# EAGLE library part USB2517-JZX (library openag-hubs)
IC USB 2.0 7PORT HUB CTLR 64QFN Description: USB Hub Controller USB 2.0 USB Interface 64-QFN (9x9) Technical Specifications: Protocol: USB Function: Hub Controller Interface: USB Standards: USB 2.0 Voltage - Supply: 3 V ~ 3.6 V Current - Supply: 130mA Operating Temperature: 0°C ~ 70°C Package / Case: 64-VFQFN Exposed Pad Supplier Device Package: 64-QFN (9x9) Base Part Number: USB2517 Datasheet(s): USB2517(I) Datasheet <http://ww1.microchip.com/downloads/en/DeviceDoc/00001598B.pdf> USB251x Family Brochure <http://www.microchip.com/mymicrochip/filehandler.aspx?ddocname=en562207> USB2517 Data Brief <http://www.microchip.com/mymicrochip/filehandler.aspx?ddocname=en562021> Vendor(s): Digikey: USB2517-JZX-CT-ND <https://www.digikey.com/product-detail/en/microchip-technology/USB2517-JZX-TR/USB2517-JZX-CT-ND/5043020>
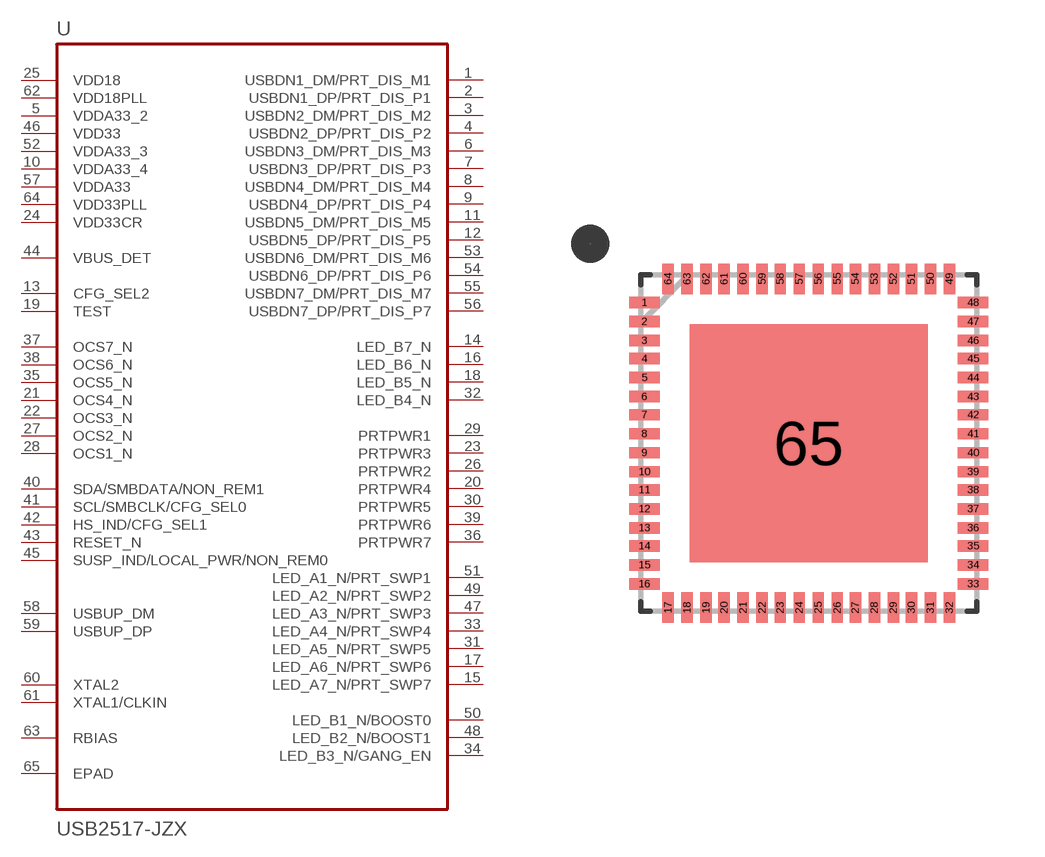
[diagram p0: symbol with the pads of QFN50P900X900X100-65N; footprint QFN50P900X900X100-65N]

Designator prefix U

## USB2517-JZX (MANUFACTURER: Microchip Technology; MPN: USB2517-JZX; VALUE: USB2517; VENDOR: Digikey; VLINK: https://www.digikey.com/product-detail/en/microchip-technology/USB2517-JZX-TR/USB2517-JZX-CT-ND/5043020; VPN: USB2517-JZX-CT-ND)  [QFN50P900X900X100-65N]
1  USBDN1_DM/PRT_DIS_M1
2  USBDN1_DP/PRT_DIS_P1
3  USBDN2_DM/PRT_DIS_M2
4  USBDN2_DP/PRT_DIS_P2
5  VDDA33_2  pwr
6  USBDN3_DM/PRT_DIS_M3
7  USBDN3_DP/PRT_DIS_P3
8  USBDN4_DM/PRT_DIS_M4
9  USBDN4_DP/PRT_DIS_P4
10  VDDA33_4  pwr
11  USBDN5_DM/PRT_DIS_M5
12  USBDN5_DP/PRT_DIS_P5
13  CFG_SEL2  in
14  LED_B7_N
15  LED_A7_N/PRT_SWP7
16  LED_B6_N
17  LED_A6_N/PRT_SWP6
18  LED_B5_N
19  TEST  in
20  PRTPWR4  out
21  OCS4_N  in
22  OCS3_N  in
23  PRTPWR3  out
24  VDD33CR  pwr
25  VDD18  pwr
26  PRTPWR2  out
27  OCS2_N  in
28  OCS1_N  in
29  PRTPWR1  out
30  PRTPWR5  out
31  LED_A5_N/PRT_SWP5
32  LED_B4_N
33  LED_A4_N/PRT_SWP4
34  LED_B3_N/GANG_EN
35  OCS5_N  in
36  PRTPWR7  out
37  OCS7_N  in
38  OCS6_N  in
39  PRTPWR6  out
40  SDA/SMBDATA/NON_REM1
41  SCL/SMBCLK/CFG_SEL0
42  HS_IND/CFG_SEL1
43  RESET_N  in
44  VBUS_DET  pwr
45  SUSP_IND/LOCAL_PWR/NON_REM0
46  VDD33  pwr
47  LED_A3_N/PRT_SWP3
48  LED_B2_N/BOOST1
49  LED_A2_N/PRT_SWP2
50  LED_B1_N/BOOST0
51  LED_A1_N/PRT_SWP1
52  VDDA33_3  pwr
53  USBDN6_DM/PRT_DIS_M6
54  USBDN6_DP/PRT_DIS_P6
55  USBDN7_DM/PRT_DIS_M7
56  USBDN7_DP/PRT_DIS_P7
57  VDDA33  pwr
58  USBUP_DM
59  USBUP_DP
60  XTAL2  out
61  XTAL1/CLKIN  in
62  VDD18PLL  pwr
63  RBIAS  in
64  VDD33PLL  pwr
65  EPAD  pas

## Footprint QFN50P900X900X100-65N (pad centres in mm)
smd 0.813 x 0.305: 1 -4.394,3.759; 2 -4.394,3.251; 3 -4.394,2.743; 4 -4.394,2.261; 5 -4.394,1.753; 6 -4.394,1.245; 7 -4.394,0.762; 8 -4.394,0.254; 9 -4.394,-0.254; 10 -4.394,-0.762; 11 -4.394,-1.245; 12 -4.394,-1.753; 13 -4.394,-2.261; 14 -4.394,-2.743; 15 -4.394,-3.251; 16 -4.394,-3.759; 33 4.394,-3.759; 34 4.394,-3.251; 35 4.394,-2.743; 36 4.394,-2.261; 37 4.394,-1.753; 38 4.394,-1.245; 39 4.394,-0.762; 40 4.394,-0.254; 41 4.394,0.254; 42 4.394,0.762; 43 4.394,1.245; 44 4.394,1.753; 45 4.394,2.261; 46 4.394,2.743; 47 4.394,3.251; 48 4.394,3.759
smd 0.305 x 0.813: 17 -3.759,-4.394; 18 -3.251,-4.394; 19 -2.743,-4.394; 20 -2.261,-4.394; 21 -1.753,-4.394; 22 -1.245,-4.394; 23 -0.762,-4.394; 24 -0.254,-4.394; 25 0.254,-4.394; 26 0.762,-4.394; 27 1.245,-4.394; 28 1.753,-4.394; 29 2.261,-4.394; 30 2.743,-4.394; 31 3.251,-4.394; 32 3.759,-4.394; 49 3.759,4.394; 50 3.251,4.394; 51 2.743,4.394; 52 2.261,4.394; 53 1.753,4.394; 54 1.245,4.394; 55 0.762,4.394; 56 0.254,4.394; 57 -0.254,4.394; 58 -0.762,4.394; 59 -1.245,4.394; 60 -1.753,4.394; 61 -2.261,4.394; 62 -2.743,4.394; 63 -3.251,4.394; 64 -3.759,4.394
smd 6.35 x 6.35: 65 0,0